# EAGLE library part CP2102N-A02-GQFN28 (library CP2102N-A02-GQFN28)
CP2102N-A02-GQFN28 as per it's datasheet <https://www.silabs.com/documents/public/data-sheets/cp2102n-datasheet.pdf>.
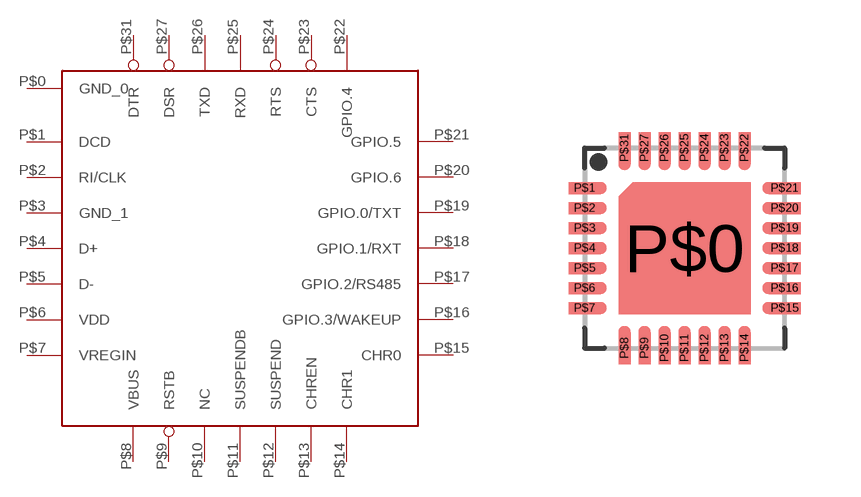
[diagram p0: symbol with the pads of QFN28; footprint QFN28]

Designator prefix -

## CP2102N-A02-GQFN28  [QFN28]
P$0  GND_0  pwr
P$1  DCD  in
P$2  RI/CLK
P$3  GND_1  pwr
P$4  D+
P$5  D-
P$6  VDD  pwr
P$7  VREGIN  pwr
P$8  VBUS  in
P$9  RSTB  in
P$10  NC  nc
P$11  SUSPENDB  out
P$12  SUSPEND  out
P$13  CHREN  out
P$14  CHR1  out
P$15  CHR0  out
P$16  GPIO.3/WAKEUP
P$17  GPIO.2/RS485
P$18  GPIO.1/RXT
P$19  GPIO.0/TXT
P$20  GPIO.6
P$21  GPIO.5
P$22  GPIO.4
P$23  CTS  in
P$24  RTS  out
P$25  RXD  in
P$26  TXD  out
P$27  DSR  in
P$31  DTR  out

## Footprint QFN28 (pad centres in mm)
QFN28 with Option 1 for Detail 1 (Irregular Corner) and Option 1 for Detail 2 (Edge Exposed). From the CP2102N Datasheet <https://www.silabs.com/documents/public/data-sheets/cp2102n-datasheet.pdf>.
smd 2.9 x 2.9: P$0 0,0
smd 0.8 x 0.3: P$1 -2.5,1.5; P$2 -2.5,1; P$3 -2.5,0.5; P$4 -2.5,0; P$5 -2.5,-0.5; P$6 -2.5,-1; P$7 -2.5,-1.5; P$15 2.5,-1.5; P$16 2.5,-1; P$17 2.5,-0.5; P$18 2.5,0; P$19 2.5,0.5; P$20 2.5,1; P$21 2.5,1.5
smd 0.3 x 0.8: P$8 -1.5,-2.5; P$9 -1,-2.5; P$10 -0.5,-2.5; P$11 0,-2.5; P$12 0.5,-2.5; P$13 1,-2.5; P$14 1.5,-2.5; P$22 1.5,2.5; P$23 1,2.5; P$24 0.5,2.5; P$25 0,2.5; P$26 -0.5,2.5; P$27 -1,2.5; P$31 -1.5,2.5